# EAGLE library part TPS2051 (library 31813 Neutron Readout PCB)
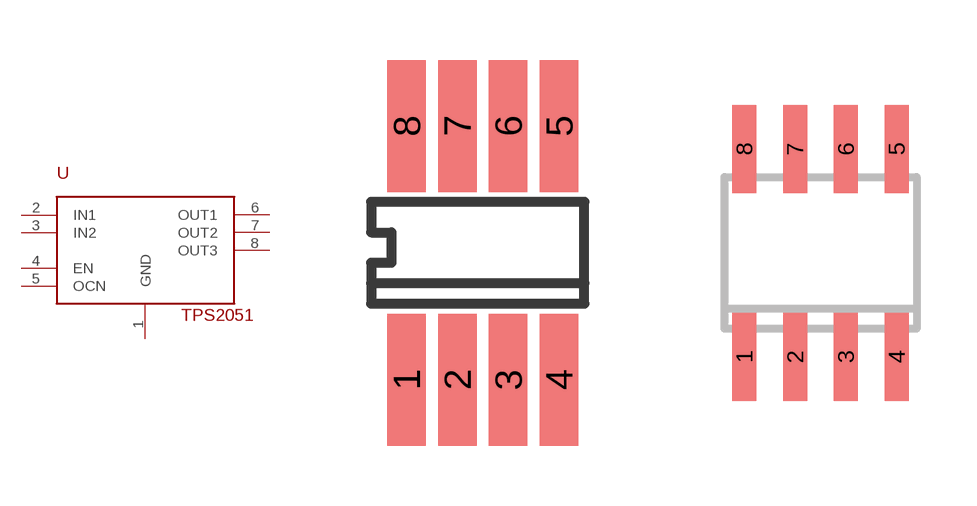
[diagram p5: symbol with the pads of SOIC-8-SPECIAL; footprints SOIC-8-SPECIAL, S0-08]

Designator prefix U

## TPS2051  [SOIC-8-SPECIAL]
1  GND
2  IN1
3  IN2
4  EN
5  OCN
6  OUT1
7  OUT2
8  OUT3

## TPS2051S08  [S0-08]
Pads as for SOIC-8-SPECIAL

## TPS2051SOIC-150  [SOIC-08-150]
Pads as for SOIC-8-SPECIAL

## Footprint SOIC-8-SPECIAL (pad centres in mm)
Special SOIC08 handles narrow .15, wide .2 and LAP packages
smd 0.965 x 3.302: 1 -1.905,-3.175; 2 -0.635,-3.175; 3 0.635,-3.175; 4 1.905,-3.175; 5 1.905,3.175; 6 0.635,3.175; 7 -0.635,3.175; 8 -1.905,3.175

## Footprint S0-08 (pad centres in mm)
smd 0.6 x 2.2: 1 -1.905,-2.6; 2 -0.635,-2.6; 3 0.635,-2.6; 4 1.905,-2.6; 5 1.905,2.6; 6 0.635,2.6; 7 -0.635,2.6; 8 -1.905,2.6

## Footprint SOIC-08-150 (pad centres in mm)
smd 0.6 x 2.2: 1 -1.905,-2.6; 2 -0.635,-2.6; 3 0.635,-2.6; 4 1.905,-2.6; 5 1.905,2.6; 6 0.635,2.6; 7 -0.635,2.6; 8 -1.905,2.6